# Altium footprint library 舱内通信板.PcbLib: 12 footprints
Each footprint in its own frame and in the unit in brackets; x right, y up, seen from the top. Pads: shape width x height; smd on the part's side, far side on the other; paste and mask are expansions set on the pad; w line width, h text height; cw(c..) or ccw(c..) is an arc to the next point about the centre after c.
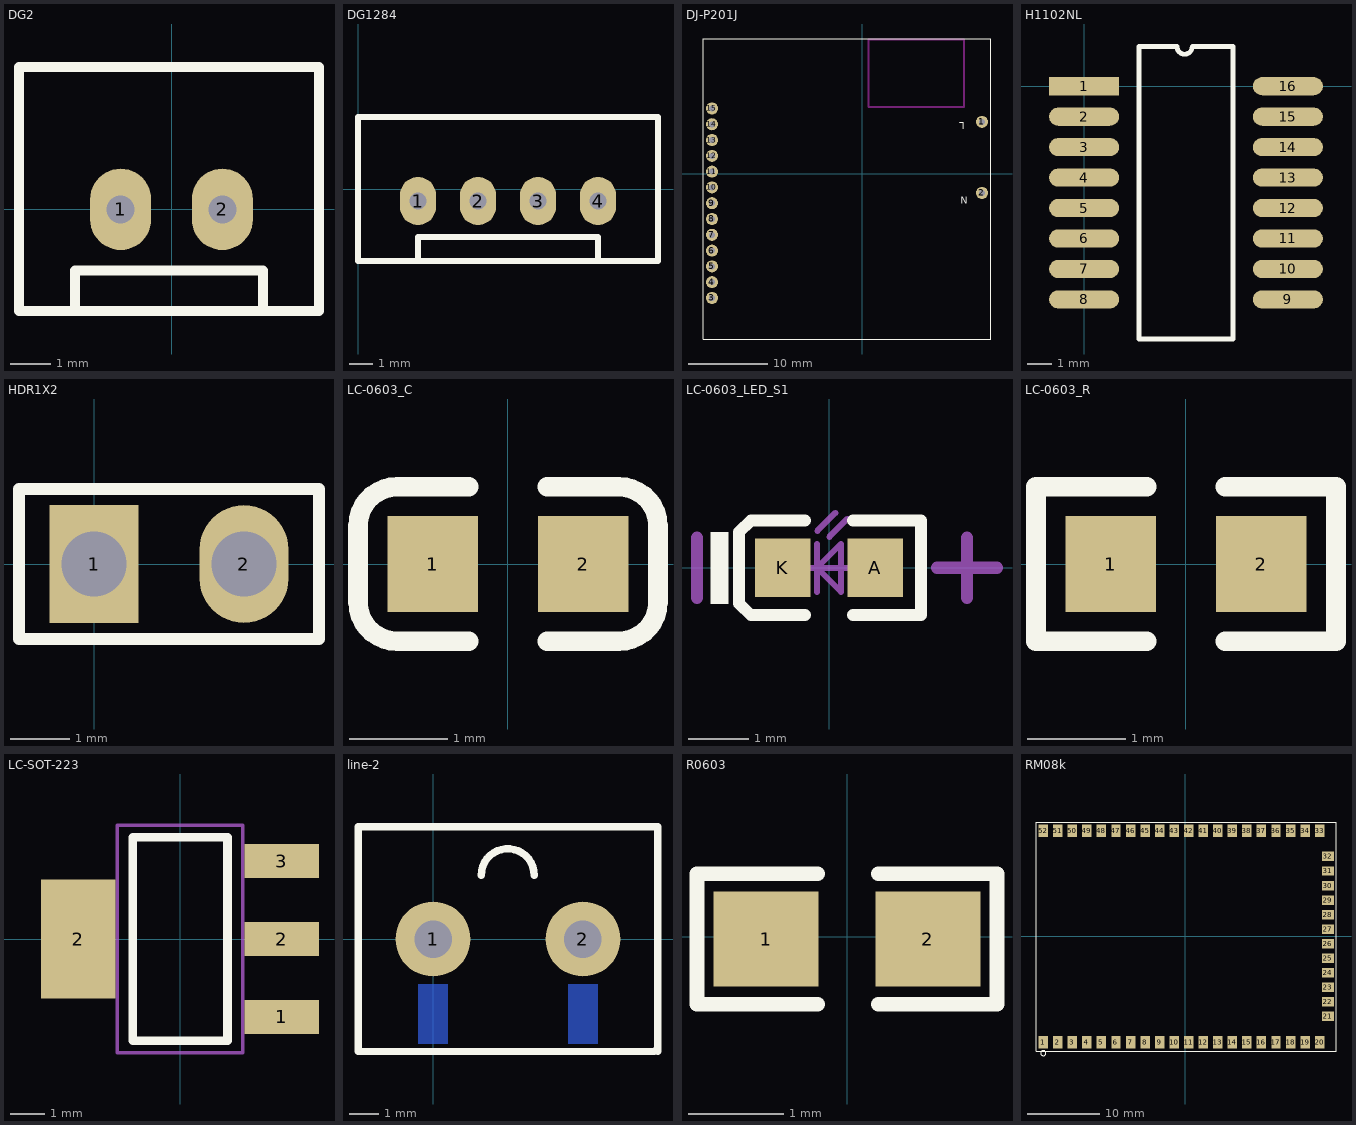
[diagram p0: the footprints below, top view; thin cyan lines are the x and y axes]

## DG2 [mil]
pads (2):
  oval 60x80 hole 27.56: 1(-50,0) 2(50,0)
Top Overlay:
  lines w10: -95,-100 -95,-60 90,-60 90,-100 ; -150,-100 145,-100 145,140 -150,140 -150,20 -150,-100

## DG1284 [mil]
pads (4):
  oval 60x80 hole 27.56: 1(100,-20) 2(200,-20) 3(300,-20) 4(400,-20)
Top Overlay:
  lines w10: 100,-120 100,-80 400,-80 400,-120 ; 0,-120 480,-120 500,-120 500,120 0,120 0,0 0,-120

## DJ-P201J [mil]
pads (15):
  round 60 hole 30: 1(596.69,259.68) 2(596.69,-94.65) 3(-749.76,-618.28) 4(-749.76,-539.54) 5(-749.76,-460.8) 6(-749.76,-382.06) 7(-749.76,-303.31) 8(-749.76,-224.57) 9(-749.76,-145.83) 10(-749.76,-67.09) 11(-749.76,11.65) 12(-749.76,90.39) 13(-749.76,169.13) 14(-749.76,247.87) 15(-749.76,326.61)
Top Overlay:
  lines w1: -793.07,-823 -793.07,673.06 640,673.06 640,-823 -793.07,-823
  text "N" at 525,-100 h60
  text "L" at 510,270 h60
Keep-Out Layer:
  lines w10: 30,334.27 508,334.27 508,671 469,671 30,671 30,334.27

## H1102NL [mm]
pads (16):
  rect 2.92x0.76 smd: 1(0,0)
  oval 2.92x0.76 smd: 2(0,-1.27) 3(0,-2.54) 4(0,-3.81) 5(0,-5.08) 6(0,-6.35) 7(0,-7.62) 8(0,-8.89) 9(8.5,-8.89) 10(8.5,-7.62) 11(8.5,-6.35) 12(8.5,-5.08) 13(8.5,-3.81) 14(8.5,-2.54) 15(8.5,-1.27) 16(8.5,0)
Top Overlay:
  lines w0.2: 2.295,-10.541 6.205,-10.541 6.205,1.651 4.508,1.651 cw(c4.191,1.651) 3.873,1.651 2.295,1.651 2.295,-10.541

## HDR1X2 [mm]
pads (2):
  rect 1.5x2 hole 1.1: 1(0,0)
  oval 1.5x2 hole 1.1: 2(2.54,0)
Top Overlay:
  lines w0.2: -1.27,-1.27 -1.27,1.27 3.81,1.27 3.81,-1.27 -1.27,-1.27

## LC-0603_C [mm]
pads (2):
  rect 0.93x0.98 smd: 1(-0.77,0) 2(0.77,0)
Top Overlay:
  lines w0.2: -0.4,-0.79 -1.135,-0.79 cw(c-1.135,-0.39) -1.535,-0.39 -1.535,0.39 cw(c-1.135,0.39) -1.135,0.79 -0.4,0.79 ; 0.4,-0.79 1.135,-0.79 ccw(c1.135,-0.39) 1.535,-0.39 1.535,0.39 ccw(c1.135,0.39) 1.135,0.79 0.4,0.79
3D body "User Library-0603 SMD Capacitor.STEP": height 0.3, standoff 0, extent -0.8,-0.4 0.8,0.4

## LC-0603_LED_S1 [mm]
pads (2):
  rect 0.93x0.98 smd: A(0.77,0) K(-0.77,0)
Top Overlay:
  rectangle: -1.975,-0.6 -1.675,0.6
  lines w0.2: -0.4,-0.79 -1.3,-0.79 -1.5,-0.597 -1.5,0.597 -1.3,0.79 -0.4,0.79 ; 0.4,-0.79 1.535,-0.79 1.535,0.79 0.4,0.79
Mechanical 13:
  lines w0.1: -0.4,0 0.4,0 ; -0.2,-0.4 -0.2,0.4 ; -0.195,0.617 0.105,0.917 ; 0.005,0.517 0.305,0.817 ; -0.2,0 0.2,0.4 0.2,-0.4 -0.2,0
Mechanical 15:
  lines w0.203: -2.2,-0.5 -2.2,0.5 ; 1.8,0 2.8,0 ; 2.3,-0.5 2.3,0.5
3D body "User Library-LED_0603_R.STEP": height 0.6, standoff 0, extent -0.8,-0.4 0.8,0.4

## LC-0603_R [mm]
pads (2):
  rect 0.93x0.98 smd: 1(-0.77,0) 2(0.77,0)
Top Overlay:
  lines w0.2: -0.4,-0.79 -1.535,-0.79 -1.535,0.79 -0.4,0.79 ; 0.4,-0.79 1.535,-0.79 1.535,0.79 0.4,0.79
3D body "User Library-RES_1609-0603.STEP": height 0.56, standoff 0, extent -0.85,-0.4 0.85,0.4

## LC-SOT-223 [mm]
pads (4):
  rect 2.2x1 smd: 1(3,-2.3) 2(3,0) 3(3,2.3)
  rect 2.2x3.5 smd: 2(-3,0)
Top Overlay:
  lines w0.254: -1.4,-3 -1.4,3 1.4,3 1.4,-3 -1.4,-3
Mechanical 13:
  lines w0.1: -1.85,-3.35 1.85,-3.35 1.85,3.35 -1.85,3.35 -1.85,-3.35
3D body "TO-223.STEP": height 1.64, standoff -0.04, extent -3.49,-3.242 3.49,3.243

## line-2 [mm]
pads (2):
  round 2.54 hole 1.27: 1(0,0) 2(5.08,0)
Bottom Layer:
  rectangle: -0.508,-3.556 0.508,-1.524
  rectangle: 4.572,-3.556 5.588,-1.524
Top Overlay:
  lines w0.254: 1.633,2.159 cw(c2.531,2.159) 3.429,2.159 ; 7.493,-3.802 -2.54,-3.81 -2.54,3.81 7.62,3.81 7.62,-3.81

## R0603 [mm]
pads (2):
  rect 1.1x1 smd: 1(-0.85,-0.025) 2(0.85,-0.025)
Top Overlay:
  lines w0.152: -0.305,-0.711 -1.575,-0.711 -1.575,0.66 -0.305,0.66 ; 0.33,-0.711 1.575,-0.711 1.575,0.66 0.33,0.66

## RM08k [mm]
pads (52):
  rect 1.3x1.7 smd: 1(-19.513,-14.555) 2(-17.513,-14.555) 3(-15.513,-14.555) 4(-13.513,-14.555) 5(-11.513,-14.555) 6(-9.513,-14.555) 7(-7.513,-14.555) 8(-5.513,-14.555) 9(-3.513,-14.555) 10(-1.513,-14.555) 11(0.487,-14.555) 12(2.487,-14.555) 13(4.487,-14.555) 14(6.487,-14.555) 15(8.487,-14.555) 16(10.487,-14.555) 17(12.487,-14.555) 18(14.487,-14.555) 19(16.487,-14.555) 20(18.487,-14.555) 33(18.487,14.545) 34(16.487,14.545) 35(14.487,14.545) 36(12.487,14.545) 37(10.487,14.545) 38(8.487,14.545) 39(6.487,14.545) 40(4.487,14.545) 41(2.487,14.545) 42(0.487,14.545) 43(-1.513,14.545) 44(-3.513,14.545) 45(-5.513,14.545) 46(-7.513,14.545) 47(-9.513,14.545) 48(-11.513,14.545) 49(-13.513,14.545) 50(-15.513,14.545) 51(-17.513,14.545) 52(-19.513,14.545)
  rect 1.7x1.3 smd: 21(19.637,-11.005) 22(19.637,-9.005) 23(19.637,-7.005) 24(19.637,-5.005) 25(19.637,-3.005) 26(19.637,-1.005) 27(19.637,0.995) 28(19.637,2.995) 29(19.637,4.995) 30(19.637,6.995) 31(19.637,8.995) 32(19.637,10.995)
Top Overlay:
  circle w0.15: c-19.513,-16.055 r0.354
  lines w0.1: -20.513,-15.805 20.737,-15.805 20.737,15.695 -20.513,15.695 -20.513,-15.805